# EAGLE library part SI8602 (library yapo)
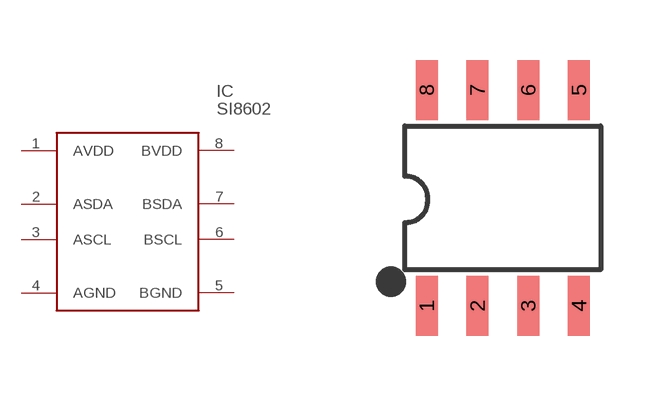
[diagram p67: symbol with the pads of SOIC8; footprint SOIC8]

Designator prefix IC

## SI8602  [SOIC8]
1  AVDD
2  ASDA
3  ASCL
4  AGND
5  BGND
6  BSCL
7  BSDA
8  BVDD

## Footprint SOIC8 (pad centres in mm)
smd 0.55 x 1.5: 1 -1.905,-2.7; 2 -0.635,-2.7; 3 0.635,-2.7; 4 1.905,-2.7; 5 1.905,2.7; 6 0.635,2.7; 7 -0.635,2.7; 8 -1.905,2.7